# EAGLE library part 1.3"LCD (library waveshare)
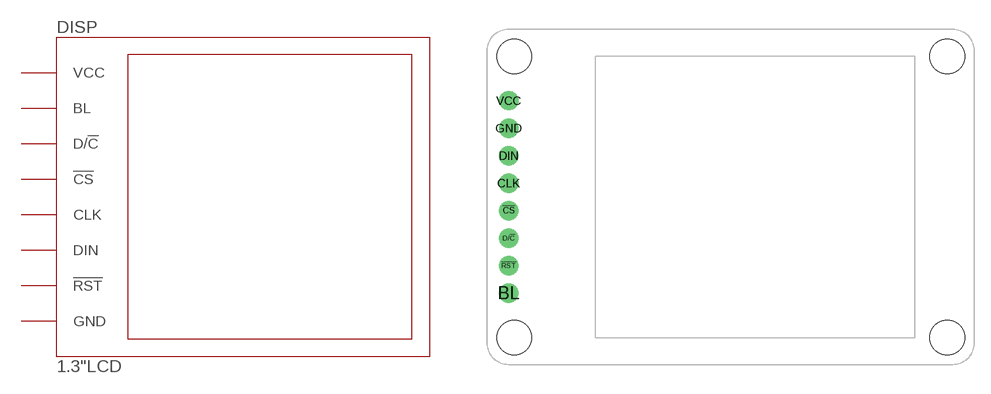
[diagram p3: symbol with the pads of 1.3"LCD; footprint 1.3"LCD]

Designator prefix DISP

## 1.3"LCD  [1.3"LCD]
!CS!  !CS!
!RST!  !RST!
BL  BL
CLK  CLK
D/!C!  D/!C!
DIN  DIN
GND  GND
VCC  VCC

## Footprint 1.3"LCD (pad centres in mm)
drill 1.016 pad 1.778: !CS! 2,14.23; !RST! 2,9.15; BL 2,6.61; CLK 2,16.77; D/!C! 2,11.69; DIN 2,19.31; GND 2,21.85; VCC 2,24.39
hole 3.2 at 2.5,2.5
hole 3.2 at 42.5,2.5
hole 3.2 at 42.5,28.5
hole 3.2 at 2.5,28.5